# Altium schematic symbol library BIPOLAR-NPN-DPAK.SchLib: 1 symbol
Pins are listed as number, name and electrical type; pins without a type are passive.

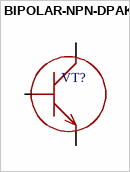
[diagram p0: symbol BIPOLAR-NPN-DPAK]

## BIPOLAR-NPN-DPAK
designator VT?
pins: 1 B, 3 E, 4 C